# Altium schematic symbol library Relay.SchLib: 257 symbols (part 3 of 3)
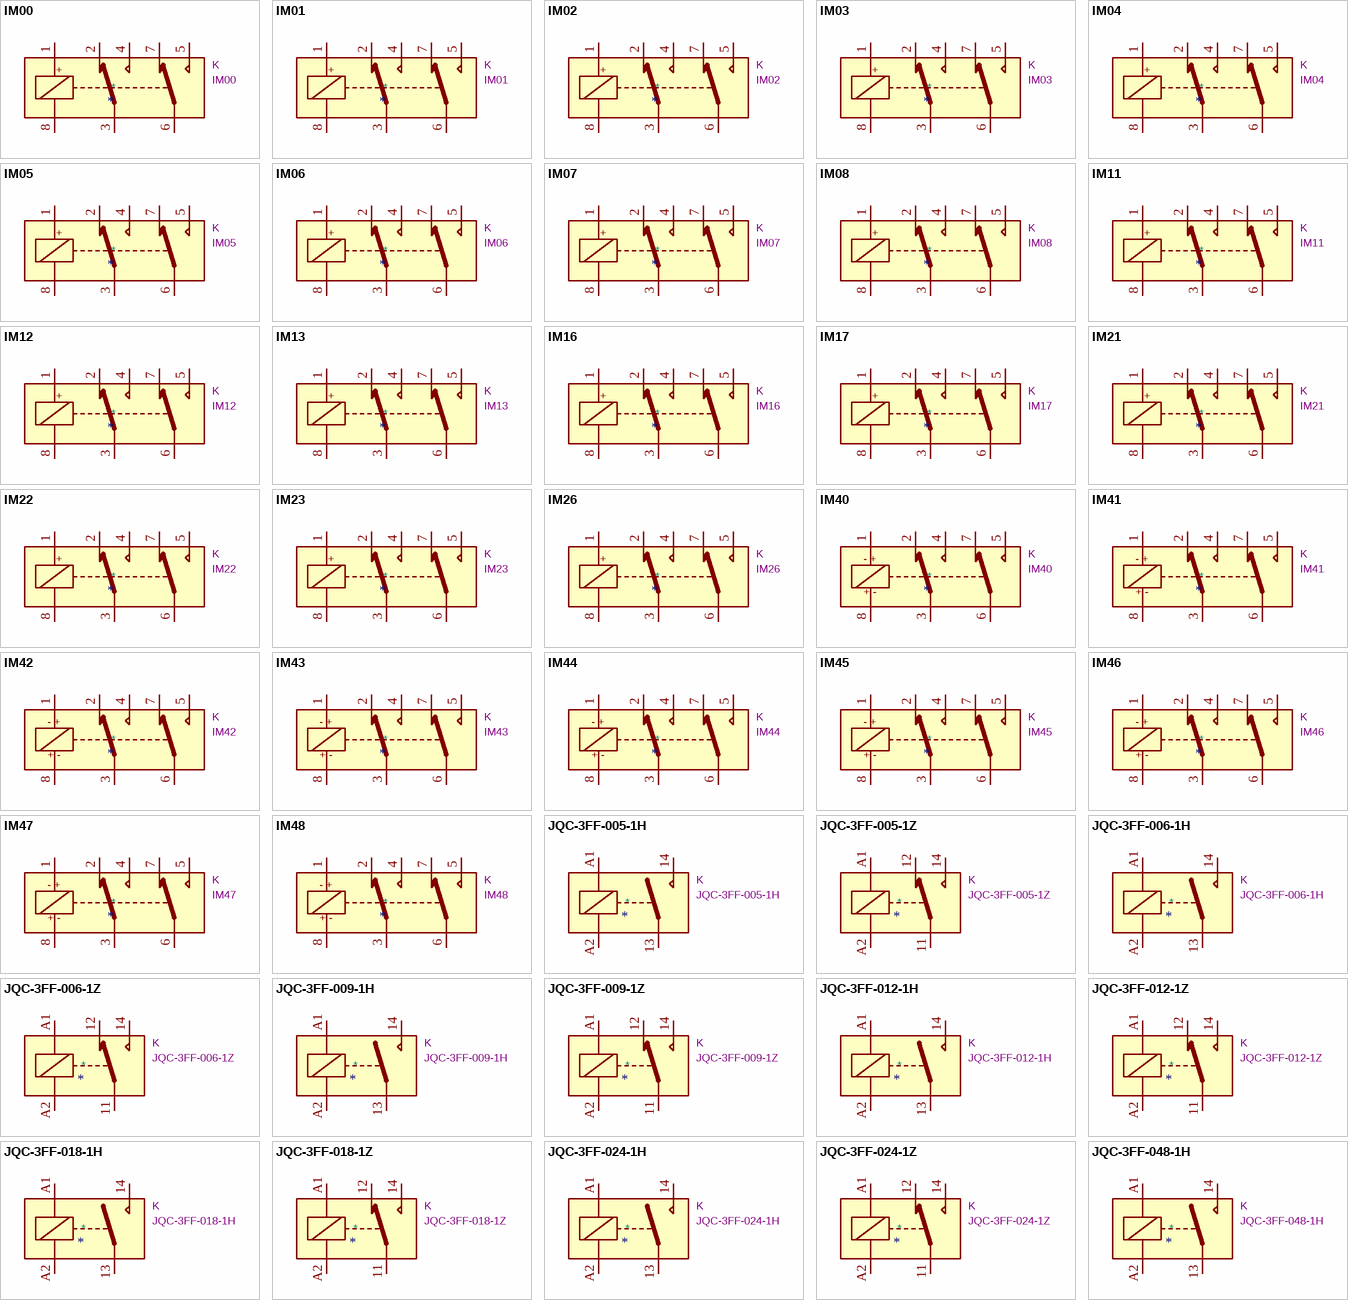
[diagram p8: symbols IM00 to JQC-3FF-048-1H]

## JQC-3FF-024-1Z
designator *  value JQC-3FF-024-1Z  Reference: K
Subminiature High Power SPDT Relay, 24V Coil nom. 0.36W, 10A switching current, max 10A@277VAC/28VDC; ki_keywords: Hongmei; ki_fp_filters: Relay*SPDT*Hongfa*JQC*3FF*0XX*1Z*; Footprint: Relay_THT:Relay_SPDT_Hongfa_JQC-3FF_0XX-1Z; Datasheet: https://www.digikey.com/htmldatasheets/production/2071105/0/0/1/JQC-3FF.pdf; Description_: Subminiature High Power SPDT Relay, 24V Coil nom. 0.36W, 10A switching current, max 10A@277VAC/28VDC
pins: 11, 12, 14, A1, A2

## JQC-3FF-048-1H
designator *  value JQC-3FF-048-1H  Reference: K
Subminiature High Power SPST NO Relay, 48V Coil nom. 0.51W, 15A switching current, max 10A@277VAC/28VDC; ki_keywords: Hongmei; ki_fp_filters: Relay*SPST*Hongfa*JQC*3FF*0XX*1H*; Footprint: Relay_THT:Relay_SPST_Hongfa_JQC-3FF_0XX-1H; Datasheet: https://www.digikey.com/htmldatasheets/production/2071105/0/0/1/JQC-3FF.pdf; Description_: Subminiature High Power SPST NO Relay, 48V Coil nom. 0.51W, 15A switching current, max 10A@277VAC/28VDC
pins: 13, 14, A1, A2

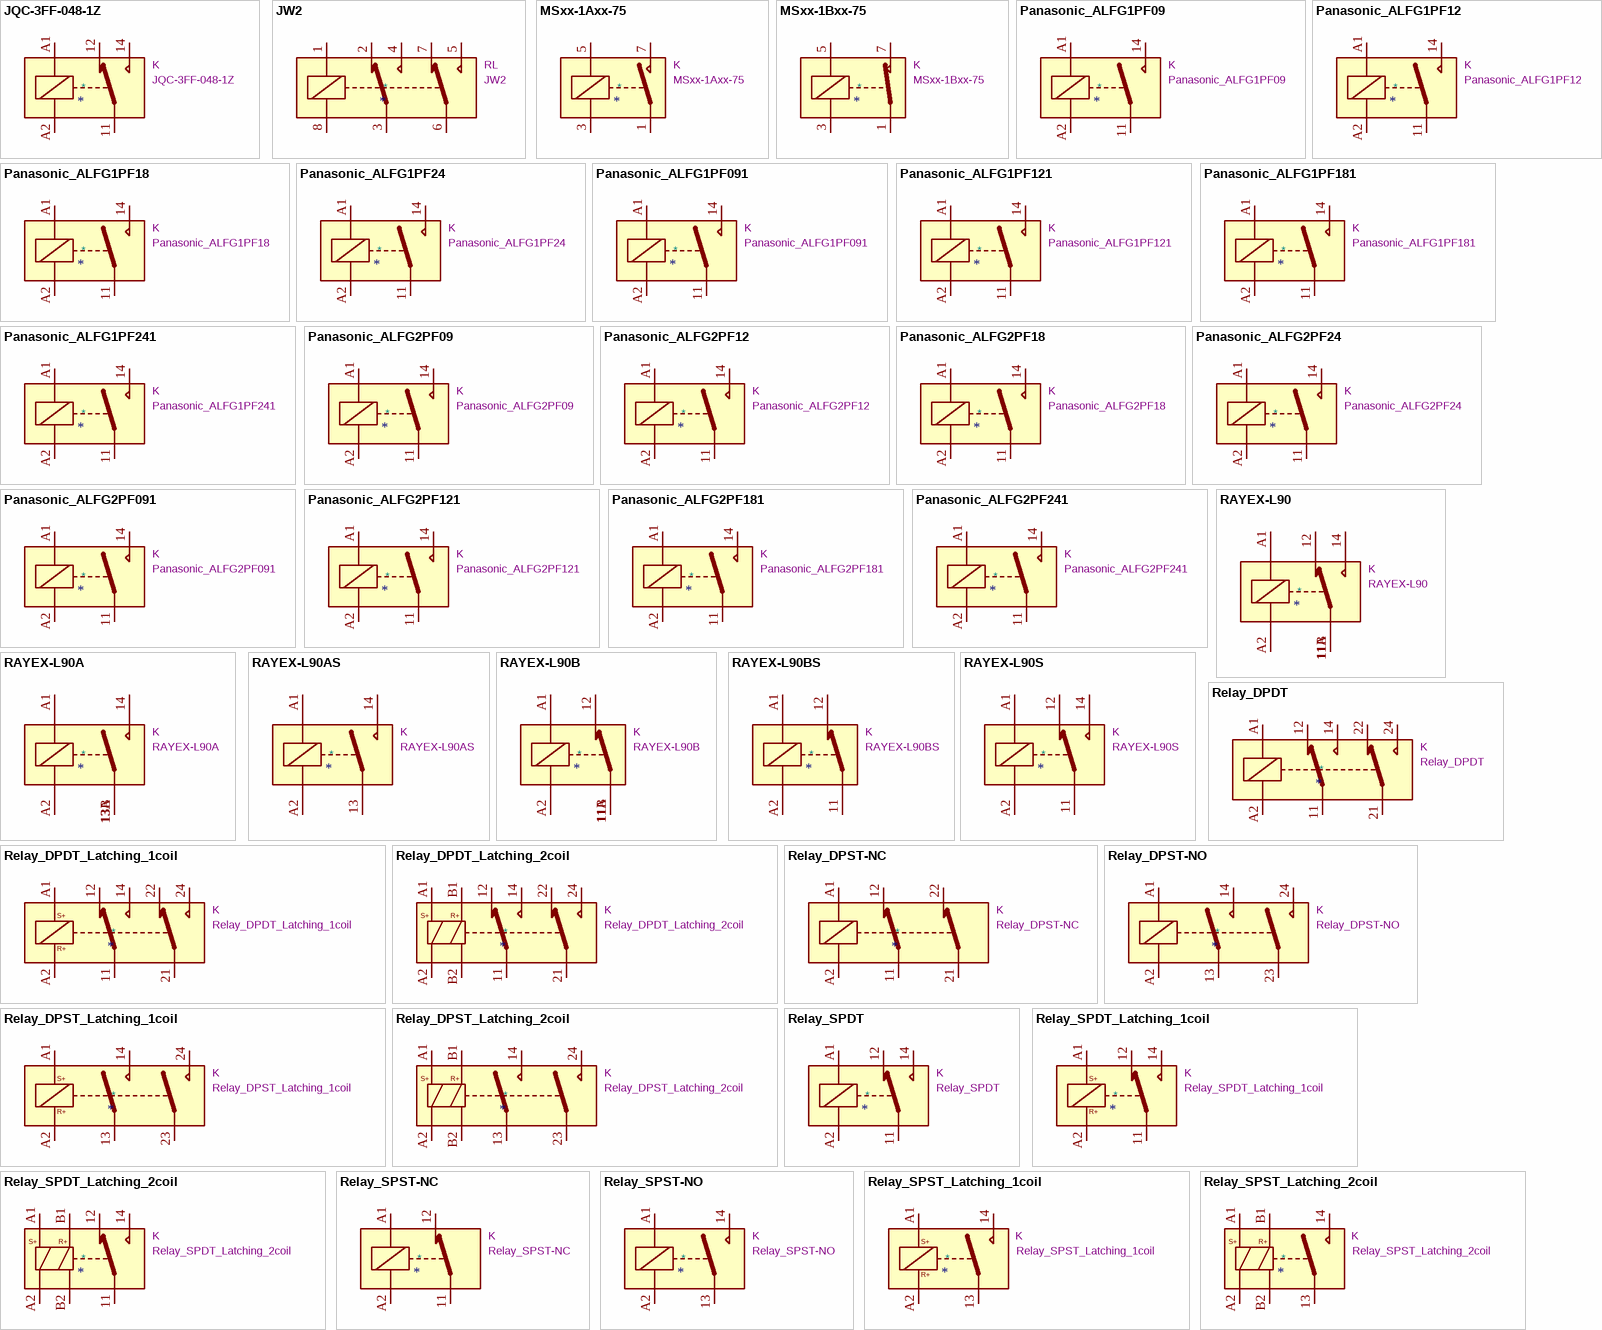
[diagram p5: symbols JQC-3FF-048-1Z to Relay_SPST_Latching_2coil]

## JQC-3FF-048-1Z
designator *  value JQC-3FF-048-1Z  Reference: K
Subminiature High Power SPDT Relay, 48V Coil nom. 0.51W, 10A switching current, max 10A@277VAC/28VDC; ki_keywords: Hongmei; ki_fp_filters: Relay*SPDT*Hongfa*JQC*3FF*0XX*1Z*; Footprint: Relay_THT:Relay_SPDT_Hongfa_JQC-3FF_0XX-1Z; Datasheet: https://www.digikey.com/htmldatasheets/production/2071105/0/0/1/JQC-3FF.pdf; Description_: Subminiature High Power SPDT Relay, 48V Coil nom. 0.51W, 10A switching current, max 10A@277VAC/28VDC
pins: 11, 12, 14, A1, A2

## JW2
designator *  value JW2  Reference: RL
General Purpose Relay DPDT (2 Form C) Through Hole, Panasonic JW series; ki_keywords: Panasonic Relay Dual Pole; ki_fp_filters: Relay*DPDT*Panasonic*JW2*; Footprint: Relay_THT:Relay_DPDT_Panasonic_JW2; Datasheet: http://www3.panasonic.biz/ac/e_download/control/relay/power/catalog/mech_eng_jw.pdf?via=ok; Description_: General Purpose Relay DPDT (2 Form C) Through Hole, Panasonic JW series
pins: 1, 2, 3, 4, 5, 6, 7, 8

## MSxx-1Axx-75
designator *  value MSxx-1Axx-75  Reference: K
Standex Meder MS reed relay, SPST, Closing Contact; ki_keywords: Single Pole Reed Relay SPST; ki_fp_filters: Relay*SPST*StandexMeder*MS*Form1AB*; Footprint: Relay_THT:Relay_SPST_StandexMeder_MS_Form1AB; Datasheet: https://standexelectronics.com/wp-content/uploads/datasheets/42/4205187975e.pdf; Description_: Standex Meder MS reed relay, SPST, Closing Contact
pins: 1, 3, 5, 7

## MSxx-1Bxx-75
designator *  value MSxx-1Bxx-75  Reference: K
Standex Meder MS reed relay, SPST, Opening Contact; ki_keywords: Single Pole Reed Relay SPST; ki_fp_filters: Relay*SPST*StandexMeder*MS*Form1AB*; Footprint: Relay_THT:Relay_SPST_StandexMeder_MS_Form1AB; Datasheet: https://standexelectronics.com/de/produkte/ms-reed-relais/; Description_: Standex Meder MS reed relay, SPST, Opening Contact
pins: 1, 3, 5, 7

## Panasonic_ALFG1PF09
designator *  value Panasonic_ALFG1PF09  Reference: K
9V DC, Standard, 22A, Contact Gap 1.5mm, ALFG_FormA; ki_keywords: single pole spst make contact; ki_fp_filters: Relay*SPST*Panasonic*ALFG*FormA*; Footprint: Relay_THT:Relay_SPST_Panasonic_ALFG_FormA_CircularHoles; Datasheet: https://www3.panasonic.biz/ac/e_download/control/relay/power/catalog/mech_eng_lfg.pdf; Description_: 9V DC, Standard, 22A, Contact Gap 1.5mm, ALFG_FormA
pins: 11, 14, A1, A2

## Panasonic_ALFG1PF12
designator *  value Panasonic_ALFG1PF12  Reference: K
12V DC, Standard, 22A, Contact Gap 1.5mm, ALFG_FormA; ki_keywords: single pole spst make contact; ki_fp_filters: Relay*SPST*Panasonic*ALFG*FormA*; Footprint: Relay_THT:Relay_SPST_Panasonic_ALFG_FormA_CircularHoles; Datasheet: https://www3.panasonic.biz/ac/e_download/control/relay/power/catalog/mech_eng_lfg.pdf; Description_: 12V DC, Standard, 22A, Contact Gap 1.5mm, ALFG_FormA
pins: 11, 14, A1, A2

## Panasonic_ALFG1PF18
designator *  value Panasonic_ALFG1PF18  Reference: K
18V DC, Standard, 22A, Contact Gap 1.5mm, ALFG_FormA; ki_keywords: single pole spst make contact; ki_fp_filters: Relay*SPST*Panasonic*ALFG*FormA*; Footprint: Relay_THT:Relay_SPST_Panasonic_ALFG_FormA_CircularHoles; Datasheet: https://www3.panasonic.biz/ac/e_download/control/relay/power/catalog/mech_eng_lfg.pdf; Description_: 18V DC, Standard, 22A, Contact Gap 1.5mm, ALFG_FormA
pins: 11, 14, A1, A2

## Panasonic_ALFG1PF24
designator *  value Panasonic_ALFG1PF24  Reference: K
24V DC, Standard, 22A, Contact Gap 1.5mm, ALFG_FormA; ki_keywords: single pole spst make contact; ki_fp_filters: Relay*SPST*Panasonic*ALFG*FormA*; Footprint: Relay_THT:Relay_SPST_Panasonic_ALFG_FormA_CircularHoles; Datasheet: https://www3.panasonic.biz/ac/e_download/control/relay/power/catalog/mech_eng_lfg.pdf; Description_: 24V DC, Standard, 22A, Contact Gap 1.5mm, ALFG_FormA
pins: 11, 14, A1, A2

## Panasonic_ALFG1PF091
designator *  value Panasonic_ALFG1PF091  Reference: K
9V DC, Standard, 22A, Contact Gap 1.8mm, ALFG_FormA; ki_keywords: single pole spst make contact; ki_fp_filters: Relay*SPST*Panasonic*ALFG*FormA*; Footprint: Relay_THT:Relay_SPST_Panasonic_ALFG_FormA_CircularHoles; Datasheet: https://www3.panasonic.biz/ac/e_download/control/relay/power/catalog/mech_eng_lfg.pdf; Description_: 9V DC, Standard, 22A, Contact Gap 1.8mm, ALFG_FormA
pins: 11, 14, A1, A2

## Panasonic_ALFG1PF121
designator *  value Panasonic_ALFG1PF121  Reference: K
12V DC, Standard, 22A, Contact Gap 1.8mm, ALFG_FormA; ki_keywords: single pole spst make contact; ki_fp_filters: Relay*SPST*Panasonic*ALFG*FormA*; Footprint: Relay_THT:Relay_SPST_Panasonic_ALFG_FormA_CircularHoles; Datasheet: https://www3.panasonic.biz/ac/e_download/control/relay/power/catalog/mech_eng_lfg.pdf; Description_: 12V DC, Standard, 22A, Contact Gap 1.8mm, ALFG_FormA
pins: 11, 14, A1, A2

## Panasonic_ALFG1PF181
designator *  value Panasonic_ALFG1PF181  Reference: K
18V DC, Standard, 22A, Contact Gap 1.8mm, ALFG_FormA; ki_keywords: single pole spst make contact; ki_fp_filters: Relay*SPST*Panasonic*ALFG*FormA*; Footprint: Relay_THT:Relay_SPST_Panasonic_ALFG_FormA_CircularHoles; Datasheet: https://www3.panasonic.biz/ac/e_download/control/relay/power/catalog/mech_eng_lfg.pdf; Description_: 18V DC, Standard, 22A, Contact Gap 1.8mm, ALFG_FormA
pins: 11, 14, A1, A2

## Panasonic_ALFG1PF241
designator *  value Panasonic_ALFG1PF241  Reference: K
24V DC, Standard, 22A, Contact Gap 1.8mm, ALFG_FormA; ki_keywords: single pole spst make contact; ki_fp_filters: Relay*SPST*Panasonic*ALFG*FormA*; Footprint: Relay_THT:Relay_SPST_Panasonic_ALFG_FormA_CircularHoles; Datasheet: https://www3.panasonic.biz/ac/e_download/control/relay/power/catalog/mech_eng_lfg.pdf; Description_: 24V DC, Standard, 22A, Contact Gap 1.8mm, ALFG_FormA
pins: 11, 14, A1, A2

## Panasonic_ALFG2PF09
designator *  value Panasonic_ALFG2PF09  Reference: K
9V DC, High Capacity, 31A, Contact Gap 1.5mm, ALFG_FormA; ki_keywords: single pole spst make contact; ki_fp_filters: Relay*SPST*Panasonic*ALFG*FormA*; Footprint: Relay_THT:Relay_SPST_Panasonic_ALFG_FormA_CircularHoles; Datasheet: https://www3.panasonic.biz/ac/e_download/control/relay/power/catalog/mech_eng_lfg.pdf; Description_: 9V DC, High Capacity, 31A, Contact Gap 1.5mm, ALFG_FormA
pins: 11, 14, A1, A2

## Panasonic_ALFG2PF12
designator *  value Panasonic_ALFG2PF12  Reference: K
12V DC, High Capacity, 31A, Contact Gap 1.5mm, ALFG_FormA; ki_keywords: single pole spst make contact; ki_fp_filters: Relay*SPST*Panasonic*ALFG*FormA*; Footprint: Relay_THT:Relay_SPST_Panasonic_ALFG_FormA_CircularHoles; Datasheet: https://www3.panasonic.biz/ac/e_download/control/relay/power/catalog/mech_eng_lfg.pdf; Description_: 12V DC, High Capacity, 31A, Contact Gap 1.5mm, ALFG_FormA
pins: 11, 14, A1, A2

## Panasonic_ALFG2PF18
designator *  value Panasonic_ALFG2PF18  Reference: K
18V DC, High Capacity, 31A, Contact Gap 1.5mm, ALFG_FormA; ki_keywords: single pole spst make contact; ki_fp_filters: Relay*SPST*Panasonic*ALFG*FormA*; Footprint: Relay_THT:Relay_SPST_Panasonic_ALFG_FormA_CircularHoles; Datasheet: https://www3.panasonic.biz/ac/e_download/control/relay/power/catalog/mech_eng_lfg.pdf; Description_: 18V DC, High Capacity, 31A, Contact Gap 1.5mm, ALFG_FormA
pins: 11, 14, A1, A2

## Panasonic_ALFG2PF24
designator *  value Panasonic_ALFG2PF24  Reference: K
24V DC, High Capacity, 31A, Contact Gap 1.5mm, ALFG_FormA; ki_keywords: single pole spst make contact; ki_fp_filters: Relay*SPST*Panasonic*ALFG*FormA*; Footprint: Relay_THT:Relay_SPST_Panasonic_ALFG_FormA_CircularHoles; Datasheet: https://www3.panasonic.biz/ac/e_download/control/relay/power/catalog/mech_eng_lfg.pdf; Description_: 24V DC, High Capacity, 31A, Contact Gap 1.5mm, ALFG_FormA
pins: 11, 14, A1, A2

## Panasonic_ALFG2PF091
designator *  value Panasonic_ALFG2PF091  Reference: K
9V DC, High Capacity, 33A, Contact Gap 1.8mm, ALFG_FormA; ki_keywords: single pole spst make contact; ki_fp_filters: Relay*SPST*Panasonic*ALFG*FormA*; Footprint: Relay_THT:Relay_SPST_Panasonic_ALFG_FormA_CircularHoles; Datasheet: https://www3.panasonic.biz/ac/e_download/control/relay/power/catalog/mech_eng_lfg.pdf; Description_: 9V DC, High Capacity, 33A, Contact Gap 1.8mm, ALFG_FormA
pins: 11, 14, A1, A2

## Panasonic_ALFG2PF121
designator *  value Panasonic_ALFG2PF121  Reference: K
12V DC, High Capacity, 33A, Contact Gap 1.8mm, ALFG_FormA; ki_keywords: single pole spst make contact; ki_fp_filters: Relay*SPST*Panasonic*ALFG*FormA*; Footprint: Relay_THT:Relay_SPST_Panasonic_ALFG_FormA_CircularHoles; Datasheet: https://www3.panasonic.biz/ac/e_download/control/relay/power/catalog/mech_eng_lfg.pdf; Description_: 12V DC, High Capacity, 33A, Contact Gap 1.8mm, ALFG_FormA
pins: 11, 14, A1, A2

## Panasonic_ALFG2PF181
designator *  value Panasonic_ALFG2PF181  Reference: K
18V DC, High Capacity, 33A, Contact Gap 1.8mm, ALFG_FormA; ki_keywords: single pole spst make contact; ki_fp_filters: Relay*SPST*Panasonic*ALFG*FormA*; Footprint: Relay_THT:Relay_SPST_Panasonic_ALFG_FormA_CircularHoles; Datasheet: https://www3.panasonic.biz/ac/e_download/control/relay/power/catalog/mech_eng_lfg.pdf; Description_: 18V DC, High Capacity, 33A, Contact Gap 1.8mm, ALFG_FormA
pins: 11, 14, A1, A2

## Panasonic_ALFG2PF241
designator *  value Panasonic_ALFG2PF241  Reference: K
24V DC, High Capacity, 33A, Contact Gap 1.8mm, ALFG_FormA; ki_keywords: single pole spst make contact; ki_fp_filters: Relay*SPST*Panasonic*ALFG*FormA*; Footprint: Relay_THT:Relay_SPST_Panasonic_ALFG_FormA_CircularHoles; Datasheet: https://www3.panasonic.biz/ac/e_download/control/relay/power/catalog/mech_eng_lfg.pdf; Description_: 24V DC, High Capacity, 33A, Contact Gap 1.8mm, ALFG_FormA
pins: 11, 14, A1, A2

## RAYEX-L90
designator *  value RAYEX-L90  Reference: K
Power relay, SPDT, 30A; ki_keywords: 30A Single Pole Relay; ki_fp_filters: Relay*SPDT*RAYEX*L90*; Footprint: Relay_THT:Relay_SPDT_RAYEX-L90; Datasheet: https://a3.sofastcdn.com/attachment/7jioKBjnRiiSrjrjknRiwS77gwbf3zmp/L90-SERIES.pdf; Description_: Power relay, SPDT, 30A
pins: 11A, 11B, 12, 14, A1, A2

## RAYEX-L90A
designator *  value RAYEX-L90A  Reference: K
Power relay, NO, SPST, 30A; ki_keywords: 30A Single Pole Relay; ki_fp_filters: Relay*SPST*RAYEX*L90A*; Footprint: Relay_THT:Relay_SPST_RAYEX-L90A; Datasheet: https://a3.sofastcdn.com/attachment/7jioKBjnRiiSrjrjknRiwS77gwbf3zmp/L90-SERIES.pdf; Description_: Power relay, NO, SPST, 30A
pins: 13A, 13B, 14, A1, A2

## RAYEX-L90AS
designator *  value RAYEX-L90AS  Reference: K
Power relay, Without Common Terminal between coil terminals, NO, SPST, 30A; ki_keywords: 30A Single Pole Relay; ki_fp_filters: Relay*SPST*RAYEX*L90A*; Footprint: Relay_THT:Relay_SPST_RAYEX-L90AS; Datasheet: https://a3.sofastcdn.com/attachment/7jioKBjnRiiSrjrjknRiwS77gwbf3zmp/L90-SERIES.pdf; Description_: Power relay, Without Common Terminal between coil terminals, NO, SPST, 30A
pins: 13, 14, A1, A2

## RAYEX-L90B
designator *  value RAYEX-L90B  Reference: K
Power relay, NC, SPST, 30A; ki_keywords: 30A Single Pole Relay; ki_fp_filters: Relay*SPST*RAYEX*L90B*; Footprint: Relay_THT:Relay_SPST_RAYEX-L90B; Datasheet: https://a3.sofastcdn.com/attachment/7jioKBjnRiiSrjrjknRiwS77gwbf3zmp/L90-SERIES.pdf; Description_: Power relay, NC, SPST, 30A
pins: 11A, 11B, 12, A1, A2

## RAYEX-L90BS
designator *  value RAYEX-L90BS  Reference: K
Power relay, Without Common Terminal between coil terminals, NC, SPST, 30A; ki_keywords: 30A Single Pole Relay; ki_fp_filters: Relay*SPST*RAYEX*L90B*; Footprint: Relay_THT:Relay_SPST_RAYEX-L90BS; Datasheet: https://a3.sofastcdn.com/attachment/7jioKBjnRiiSrjrjknRiwS77gwbf3zmp/L90-SERIES.pdf; Description_: Power relay, Without Common Terminal between coil terminals, NC, SPST, 30A
pins: 11, 12, A1, A2

## RAYEX-L90S
designator *  value RAYEX-L90S  Reference: K
Power relay, Without Common Terminal between coil terminals, SPDT, 30A; ki_keywords: 30A Single Pole Relay; ki_fp_filters: Relay*SPDT*RAYEX*L90S*; Footprint: Relay_THT:Relay_SPDT_RAYEX-L90S; Datasheet: https://a3.sofastcdn.com/attachment/7jioKBjnRiiSrjrjknRiwS77gwbf3zmp/L90-SERIES.pdf; Description_: Power relay, Without Common Terminal between coil terminals, SPDT, 30A
pins: 11, 12, 14, A1, A2

## Relay_DPDT
designator *  value Relay_DPDT  Reference: K
Relay DPDT, monostable, EN50005; ki_keywords: 2P2T 2-Form-C double dual throw pole; ki_fp_filters: Relay?DPDT*; Datasheet: ~; Description_: Relay DPDT, monostable, EN50005
pins: 11, 12, 14, 21, 22, 24, A1, A2

## Relay_DPDT_Latching_1coil
designator *  value Relay_DPDT_Latching_1coil  Reference: K
Relay DPDT, bistable, single-coil, EN50005; ki_keywords: 2P2T 2-Form-C double dual pole throw latching; ki_fp_filters: Relay?DPDT*; Datasheet: ~; Description_: Relay DPDT, bistable, single-coil, EN50005
pins: 11, 12, 14, 21, 22, 24, A1, A2
text: S+; R+

## Relay_DPDT_Latching_2coil
designator *  value Relay_DPDT_Latching_2coil  Reference: K
Relay DPDT, bistable, double-coil, EN50005; ki_keywords: 2P2T 2-Form-C double dual pole throw latching; ki_fp_filters: Relay?DPDT*; Datasheet: ~; Description_: Relay DPDT, bistable, double-coil, EN50005
pins: 11, 12, 14, 21, 22, 24, A1, A2, B1, B2
text: S+; R+

## Relay_DPST-NC
designator *  value Relay_DPST-NC  Reference: K
Relay DPST, monostable, normally closed, EN50005; ki_keywords: 2P2T 2-Form-B double dual pole throw NC; ki_fp_filters: Relay?DPST*; Datasheet: ~; Description_: Relay DPST, monostable, normally closed, EN50005
pins: 11, 12, 21, 22, A1, A2

## Relay_DPST-NO
designator *  value Relay_DPST-NO  Reference: K
Relay DPST, monostable, normally open, EN50005; ki_keywords: 2P2T 2-Form-A double dual pole throw NO; ki_fp_filters: Relay?DPST*; Datasheet: ~; Description_: Relay DPST, monostable, normally open, EN50005
pins: 13, 14, 23, 24, A1, A2

## Relay_DPST_Latching_1coil
designator *  value Relay_DPST_Latching_1coil  Reference: K
Relay DPST, monostable, normally open, EN50005; ki_keywords: 2P2Tdouble dual pole throw latching; ki_fp_filters: Relay?DPST*; Datasheet: ~; Description_: Relay DPST, monostable, normally open, EN50005
pins: 13, 14, 23, 24, A1, A2
text: S+; R+

## Relay_DPST_Latching_2coil
designator *  value Relay_DPST_Latching_2coil  Reference: K
Relay DPST, bistable, double-coil, EN50005; ki_keywords: 2P2T double dual pole throw latching; ki_fp_filters: Relay?DPDT*; Datasheet: ~; Description_: Relay DPST, bistable, double-coil, EN50005
pins: 13, 14, 23, 24, A1, A2, B1, B2
text: S+; R+

## Relay_SPDT
designator *  value Relay_SPDT  Reference: K
Relay SPDT, monostable, EN50005; ki_keywords: 1P2T 1-Form-C single pole throw; ki_fp_filters: Relay?SPDT*; Datasheet: ~; Description_: Relay SPDT, monostable, EN50005
pins: 11, 12, 14, A1, A2

## Relay_SPDT_Latching_1coil
designator *  value Relay_SPDT_Latching_1coil  Reference: K
Relay SPDT, bistable, double-coil, EN50005; ki_keywords: 1P2T 1-Form-C single pole throw latching; ki_fp_filters: Relay?SPDT*; Datasheet: ~; Description_: Relay SPDT, bistable, double-coil, EN50005
pins: 11, 12, 14, A1, A2
text: S+; R+

## Relay_SPDT_Latching_2coil
designator *  value Relay_SPDT_Latching_2coil  Reference: K
Relay SPDT, bistable, double-coil, EN50005; ki_keywords: 1P2T 1-Form-C single pole throw latching; ki_fp_filters: Relay?SPDT*; Datasheet: ~; Description_: Relay SPDT, bistable, double-coil, EN50005
pins: 11, 12, 14, A1, A2, B1, B2
text: S+; R+

## Relay_SPST-NC
designator *  value Relay_SPST-NC  Reference: K
Relay SPST, normally closed, EN50005; ki_keywords: 1P1T 1-Form-B single pole throw NC; ki_fp_filters: Relay?SPST*; Datasheet: ~; Description_: Relay SPST, normally closed, EN50005
pins: 11, 12, A1, A2

## Relay_SPST-NO
designator *  value Relay_SPST-NO  Reference: K
Relay SPST, normally open, EN50005; ki_keywords: 1P1T 1-Form-A single pole throw NO; ki_fp_filters: Relay?SPST*; Datasheet: ~; Description_: Relay SPST, normally open, EN50005
pins: 13, 14, A1, A2

## Relay_SPST_Latching_1coil
designator *  value Relay_SPST_Latching_1coil  Reference: K
Relay SPST, bistable, single-coil, EN50005; ki_keywords: 1P1T single pole throw latching; ki_fp_filters: Relay?SPST*; Datasheet: ~; Description_: Relay SPST, bistable, single-coil, EN50005
pins: 13, 14, A1, A2
text: S+; R+

## Relay_SPST_Latching_2coil
designator *  value Relay_SPST_Latching_2coil  Reference: K
Relay SPST, bistable, double-coil, EN50005; ki_keywords: 1P1T single pole throw latching; ki_fp_filters: Relay?SPST*; Datasheet: ~; Description_: Relay SPST, bistable, double-coil, EN50005
pins: 13, 14, A1, A2, B1, B2
text: S+; R+

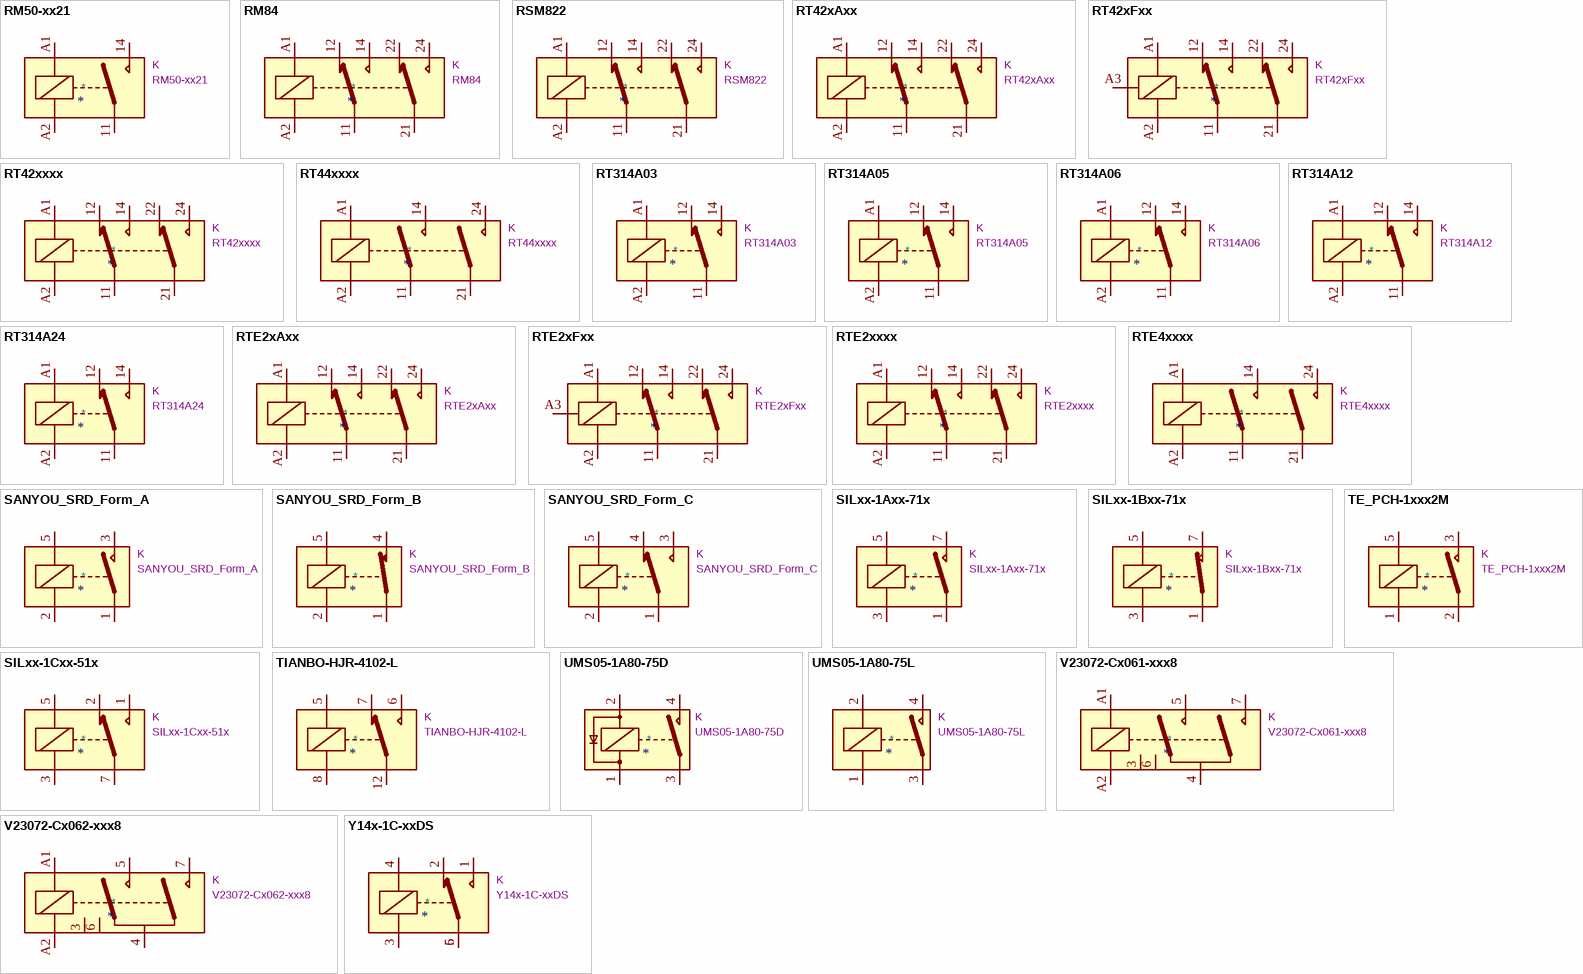
[diagram p6: symbols RM50-xx21 to Y14x-1C-xxDS]

## RM50-xx21
designator *  value RM50-xx21  Reference: K
RELPOL, Single Pole Relay SPST-NO, 6A; ki_fp_filters: Relay*SPST*Finder*32.21*x300*; Footprint: Relay_THT:Relay_SPST_Finder_32.21-x300; Datasheet: http://www.relpol.pl/en/content/download/13683/165953/file/e_RM50.pdf; Description_: RELPOL, Single Pole Relay SPST-NO, 6A; ki_keywords: Single Pole Relay SPST-NO
pins: 11, 14, A1, A2

## RM84
designator *  value RM84  Reference: K
RELPOL Dual Pole Relay, 5mm Pitch, 8A; ki_fp_filters: Relay*DPDT*Finder*40.52*; Footprint: Relay_THT:Relay_DPDT_Finder_40.52; Datasheet: http://www.relpol.pl/en/content/download/13766/168095/file/e_RM84.pdf; Description_: RELPOL Dual Pole Relay, 5mm Pitch, 8A; ki_keywords: Dual Pole Relay
pins: 11, 12, 14, 21, 22, 24, A1, A2

## RSM822
designator *  value RSM822  Reference: K
RELPOL Dual Pole Relay, 5mm Pitch, 2A; ki_fp_filters: Relay*DPDT*Finder*40.52*; Footprint: Relay_THT:Relay_DPDT_Finder_40.52; Datasheet: http://www.relpol.pl/en/content/download/14975/202519/file/e_RSM822.pdf; Description_: RELPOL Dual Pole Relay, 5mm Pitch, 2A; ki_keywords: Dual Pole Relay
pins: 11, 12, 14, 21, 22, 24, A1, A2

## RT42xAxx
designator *  value RT42xAxx  Reference: K
Schrack RT2 relay, bistable dual pole dual throw, single DC coil; ki_keywords: TE DPDT CO bistable DC; ki_fp_filters: Relay*DPDT*RT2*FormC*; Footprint: Relay_THT:Relay_DPDT_Schrack-RT2-FormC_RM5mm; Datasheet: http://www.te.com/commerce/DocumentDelivery/DDEController?Action=showdoc&DocId=Data+Sheet%7FRT2_bistable%7F1116%7Fpdf%7FEnglish%7FENG_DS_RT2_bistable_1116.pdf%7F1-1415537-8; Description_: Schrack RT2 relay, bistable dual pole dual throw, single DC coil
pins: 11, 12, 14, 21, 22, 24, A1, A2

## RT42xFxx
designator *  value RT42xFxx  Reference: K
Schrack RT2 relay, bistable dual pole dual throw, dual DC coils; ki_keywords: TE DPDT CO bistable DC; ki_fp_filters: Relay*DPDT*RT2*FormC*; Footprint: Relay_THT:Relay_DPDT_Schrack-RT2-FormC-Dual-Coil_RM5mm; Datasheet: http://www.te.com/commerce/DocumentDelivery/DDEController?Action=showdoc&DocId=Data+Sheet%7FRT2_bistable%7F1116%7Fpdf%7FEnglish%7FENG_DS_RT2_bistable_1116.pdf%7F1-1415537-8; Description_: Schrack RT2 relay, bistable dual pole dual throw, dual DC coils
pins: 11, 12, 14, 21, 22, 24, A1, A2, A3

## RT42xxxx
designator *  value RT42xxxx  Reference: K
Schrack RT2 relay, monostable dual pole dual throw, DC or AC coil; ki_keywords: TE DPDT CO monostable; ki_fp_filters: Relay*DPDT*RT2*FormC*; Footprint: Relay_THT:Relay_DPDT_Schrack-RT2-FormC_RM5mm; Datasheet: http://www.te.com/commerce/DocumentDelivery/DDEController?Action=showdoc&DocId=Data+Sheet%7FRT2%7F1014%7Fpdf%7FEnglish%7FENG_DS_RT2_1014.pdf%7F6-1393243-3; Description_: Schrack RT2 relay, monostable dual pole dual throw, DC or AC coil
pins: 11, 12, 14, 21, 22, 24, A1, A2

## RT44xxxx
designator *  value RT44xxxx  Reference: K
Schrack RT2 relay, monostable dual pole normally open, DC or AC coil; ki_keywords: TE DPST NO monostable; ki_fp_filters: Relay*DPST*RT2*FormA*; Footprint: Relay_THT:Relay_DPST_Schrack-RT2-FormA_RM5mm; Datasheet: http://www.te.com/commerce/DocumentDelivery/DDEController?Action=showdoc&DocId=Data+Sheet%7FRT2%7F1014%7Fpdf%7FEnglish%7FENG_DS_RT2_1014.pdf%7F6-1393243-3; Description_: Schrack RT2 relay, monostable dual pole normally open, DC or AC coil
pins: 11, 14, 21, 24, A1, A2

## RT314A03
designator *  value RT314A03  Reference: K
Schrack RT1 relay, bistable single pole dual throw, single DC coil, 3V; ki_keywords: TE SPDT 1P2T CO bistable DC; ki_fp_filters: Relay*SPDT*Schrack*RT1*16A*FormC*RM5mm*; Footprint: Relay_THT:Relay_SPDT_Schrack-RT1-16A-FormC_RM5mm; Datasheet: https://www.te.com/commerce/DocumentDelivery/DDEController?Action=srchrtrv&DocNm=RT1_bistable&DocType=DS&DocLang=English; Description_: Schrack RT1 relay, bistable single pole dual throw, single DC coil, 3V
pins: 11, 12, 14, A1, A2

## RT314A05
designator *  value RT314A05  Reference: K
Schrack RT1 relay, bistable single pole dual throw, single DC coil, 5V; ki_keywords: TE SPDT 1P2T CO bistable DC; ki_fp_filters: Relay*SPDT*Schrack*RT1*16A*FormC*RM5mm*; Footprint: Relay_THT:Relay_SPDT_Schrack-RT1-16A-FormC_RM5mm; Datasheet: https://www.te.com/commerce/DocumentDelivery/DDEController?Action=srchrtrv&DocNm=RT1_bistable&DocType=DS&DocLang=English; Description_: Schrack RT1 relay, bistable single pole dual throw, single DC coil, 5V
pins: 11, 12, 14, A1, A2

## RT314A06
designator *  value RT314A06  Reference: K
Schrack RT1 relay, bistablesingle pole dual throw, single DC coil, 6V; ki_keywords: TE SPDT 1P2T CO bistable DC; ki_fp_filters: Relay*SPDT*Schrack*RT1*16A*FormC*RM5mm*; Footprint: Relay_THT:Relay_SPDT_Schrack-RT1-16A-FormC_RM5mm; Datasheet: https://www.te.com/commerce/DocumentDelivery/DDEController?Action=srchrtrv&DocNm=RT1_bistable&DocType=DS&DocLang=English; Description_: Schrack RT1 relay, bistablesingle pole dual throw, single DC coil, 6V
pins: 11, 12, 14, A1, A2

## RT314A12
designator *  value RT314A12  Reference: K
Schrack RT1 relay, bistable single pole dual throw, single DC coil, 12V; ki_keywords: TE SPDT 1P2T CO bistable DC; ki_fp_filters: Relay*SPDT*Schrack*RT1*16A*FormC*RM5mm*; Footprint: Relay_THT:Relay_SPDT_Schrack-RT1-16A-FormC_RM5mm; Datasheet: https://www.te.com/commerce/DocumentDelivery/DDEController?Action=srchrtrv&DocNm=RT1_bistable&DocType=DS&DocLang=English; Description_: Schrack RT1 relay, bistable single pole dual throw, single DC coil, 12V
pins: 11, 12, 14, A1, A2

## RT314A24
designator *  value RT314A24  Reference: K
Schrack RT1 relay, bistable single pole dual throw, single DC coil, 24V, IEC 60335-1; ki_keywords: TE SPDT 1P2T CO bistable DC; ki_fp_filters: Relay*SPDT*Schrack*RT1*16A*FormC*RM5mm*; Footprint: Relay_THT:Relay_SPDT_Schrack-RT1-16A-FormC_RM5mm; Datasheet: https://www.te.com/commerce/DocumentDelivery/DDEController?Action=srchrtrv&DocNm=RT1_bistable&DocType=DS&DocLang=English; Description_: Schrack RT1 relay, bistable single pole dual throw, single DC coil, 24V, IEC 60335-1
pins: 11, 12, 14, A1, A2

## RTE2xAxx
designator *  value RTE2xAxx  Reference: K
Schrack RT2 relay, bistable dual pole dual throw, single DC coil; ki_keywords: TE DPDT CO bistable DC; ki_fp_filters: Relay*DPDT*RT2*FormC*; Footprint: Relay_THT:Relay_DPDT_Schrack-RT2-FormC_RM5mm; Datasheet: http://www.te.com/commerce/DocumentDelivery/DDEController?Action=showdoc&DocId=Data+Sheet%7FRT2_bistable%7F1116%7Fpdf%7FEnglish%7FENG_DS_RT2_bistable_1116.pdf%7F1-1415537-8; Description_: Schrack RT2 relay, bistable dual pole dual throw, single DC coil
pins: 11, 12, 14, 21, 22, 24, A1, A2

## RTE2xFxx
designator *  value RTE2xFxx  Reference: K
Schrack RT2 relay, bistable dual pole dual throw, dual DC coils; ki_keywords: TE DPDT CO bistable DC; ki_fp_filters: Relay*DPDT*RT2*FormC*; Footprint: Relay_THT:Relay_DPDT_Schrack-RT2-FormC-Dual-Coil_RM5mm; Datasheet: http://www.te.com/commerce/DocumentDelivery/DDEController?Action=showdoc&DocId=Data+Sheet%7FRT2_bistable%7F1116%7Fpdf%7FEnglish%7FENG_DS_RT2_bistable_1116.pdf%7F1-1415537-8; Description_: Schrack RT2 relay, bistable dual pole dual throw, dual DC coils
pins: 11, 12, 14, 21, 22, 24, A1, A2, A3

## RTE2xxxx
designator *  value RTE2xxxx  Reference: K
Schrack RT2 relay, monostable dual pole dual throw, DC or AC coil; ki_keywords: TE DPDT CO monostable; ki_fp_filters: Relay*DPDT*RT2*FormC*; Footprint: Relay_THT:Relay_DPDT_Schrack-RT2-FormC_RM5mm; Datasheet: http://www.te.com/commerce/DocumentDelivery/DDEController?Action=showdoc&DocId=Data+Sheet%7FRT2%7F1014%7Fpdf%7FEnglish%7FENG_DS_RT2_1014.pdf%7F6-1393243-3; Description_: Schrack RT2 relay, monostable dual pole dual throw, DC or AC coil
pins: 11, 12, 14, 21, 22, 24, A1, A2

## RTE4xxxx
designator *  value RTE4xxxx  Reference: K
Schrack RT2 relay, monostable dual pole normally open, DC or AC coil; ki_keywords: TE DPST NO monostable; ki_fp_filters: Relay*DPST*RT2*FormA*; Footprint: Relay_THT:Relay_DPST_Schrack-RT2-FormA_RM5mm; Datasheet: http://www.te.com/commerce/DocumentDelivery/DDEController?Action=showdoc&DocId=Data+Sheet%7FRT2%7F1014%7Fpdf%7FEnglish%7FENG_DS_RT2_1014.pdf%7F6-1393243-3; Description_: Schrack RT2 relay, monostable dual pole normally open, DC or AC coil
pins: 11, 14, 21, 24, A1, A2

## SANYOU_SRD_Form_A
designator *  value SANYOU_SRD_Form_A  Reference: K
Sanyo SRD relay, Single Pole Miniature Power Relay, Closing Contact; ki_keywords: Single Pole Relay SPST; ki_fp_filters: Relay*SPST*SANYOU*SRD*Series*Form*A*; Footprint: Relay_THT:Relay_SPST_SANYOU_SRD_Series_Form_A; Datasheet: http://www.sanyourelay.ca/public/products/pdf/SRD.pdf; Description_: Sanyo SRD relay, Single Pole Miniature Power Relay, Closing Contact
pins: 1, 2, 3, 5

## SANYOU_SRD_Form_B
designator *  value SANYOU_SRD_Form_B  Reference: K
Sanyo SRD relay, Single Pole Miniature Power Relay, Opening Contact; ki_keywords: Single Pole Relay SPST; ki_fp_filters: Relay*SPST*SANYOU*SRD*Series*Form*B*; Footprint: Relay_THT:Relay_SPST_SANYOU_SRD_Series_Form_B; Datasheet: http://www.sanyourelay.ca/public/products/pdf/SRD.pdf; Description_: Sanyo SRD relay, Single Pole Miniature Power Relay, Opening Contact
pins: 1, 2, 4, 5

## SANYOU_SRD_Form_C
designator *  value SANYOU_SRD_Form_C  Reference: K
Sanyo SRD relay, Single Pole Miniature Power Relay,; ki_keywords: Single Pole Relay SPDT; ki_fp_filters: Relay*SPDT*SANYOU*SRD*Series*Form*C*; Footprint: Relay_THT:Relay_SPDT_SANYOU_SRD_Series_Form_C; Datasheet: http://www.sanyourelay.ca/public/products/pdf/SRD.pdf; Description_: Sanyo SRD relay, Single Pole Miniature Power Relay,
pins: 1, 2, 3, 4, 5

## SILxx-1Axx-71x
designator *  value SILxx-1Axx-71x  Reference: K
Standex Meder SIL reed relay, SPST, Closing Contact; ki_keywords: Single Pole Reed Relay SPST; ki_fp_filters: Relay*SPST*StandexMeder*SIL*Form1A*; Footprint: Relay_THT:Relay_SPST_StandexMeder_SIL_Form1A; Datasheet: https://standexelectronics.com/wp-content/uploads/datasheet_reed_relay_SIL.pdf; Description_: Standex Meder SIL reed relay, SPST, Closing Contact
pins: 1, 3, 5, 7

## SILxx-1Bxx-71x
designator *  value SILxx-1Bxx-71x  Reference: K
Standex Meder SIL reed relay, SPST, Opening Contact; ki_keywords: Single Pole Reed Relay SPST; ki_fp_filters: Relay*SPST*StandexMeder*SIL*Form1B*; Footprint: Relay_THT:Relay_SPST_StandexMeder_SIL_Form1B; Datasheet: https://standexelectronics.com/wp-content/uploads/datasheet_reed_relay_SIL.pdf; Description_: Standex Meder SIL reed relay, SPST, Opening Contact
pins: 1, 3, 5, 7

## SILxx-1Cxx-51x
designator *  value SILxx-1Cxx-51x  Reference: K
Standex Meder SIL reed relay, SPDT; ki_keywords: Single Pole Reed Relay SPDT; ki_fp_filters: Relay*SPDT*StandexMeder*SIL*Form1C*; Footprint: Relay_THT:Relay_SPDT_StandexMeder_SIL_Form1C; Datasheet: https://standexelectronics.com/wp-content/uploads/datasheet_reed_relay_SIL.pdf; Description_: Standex Meder SIL reed relay, SPDT
pins: 1, 2, 3, 5, 7

## TE_PCH-1xxx2M
designator *  value TE_PCH-1xxx2M  Reference: K
TE PCH relay, Miniature Single Pole, SPST-NO; ki_keywords: Miniature Single Pole Relay; ki_fp_filters: Relay*SPST*TE*PCH*1***2M*; Footprint: Relay_THT:Relay_SPST_TE_PCH-1xxx2M; Datasheet: http://www.te.com/commerce/DocumentDelivery/DDEController?Action=showdoc&DocId=Data+Sheet%7FPCH_series_relay_data_sheet_E%7F1215%7Fpdf%7FEnglish%7FENG_DS_PCH_series_relay_data_sheet_E_1215.pdf%7F9-1440003-0; Description_: TE PCH relay, Miniature Single Pole, SPST-NO
pins: 1, 2, 3, 5

## TIANBO-HJR-4102-L
designator *  value TIANBO-HJR-4102-L  Reference: K
TIANBO HJR-4102-L, Single Pole Relay, 5mm Pitch, 3A; ki_fp_filters: Relay*HJR?4102*; Footprint: Relay_THT:Relay_SPDT_HJR-4102; Datasheet: https://cdn-reichelt.de/documents/datenblatt/C300/DS_HJR4102E.pdf; Description_: TIANBO HJR-4102-L, Single Pole Relay, 5mm Pitch, 3A; ki_keywords: Single Pole Relay
pins: 5, 6, 7, 8, 12

## UMS05-1A80-75D
designator *  value UMS05-1A80-75D  Reference: K
Standex Meder UMS reed relay, SPST, Closing Contact, with diode; ki_keywords: Single Pole Reed Relay SPST; ki_fp_filters: Relay*StandexMeder*UMS*; Footprint: Relay_THT:Relay_StandexMeder_UMS; Datasheet: https://standexelectronics.com/wp-content/uploads/datasheets/43/4305180175d.pdf; Description_: Standex Meder UMS reed relay, SPST, Closing Contact, with diode
pins: 1, 2, 3, 4

## UMS05-1A80-75L
designator *  value UMS05-1A80-75L  Reference: K
Standex Meder UMS reed relay, SPST, Closing Contact; ki_keywords: Single Pole Reed Relay SPST; ki_fp_filters: Relay*StandexMeder*UMS*; Footprint: Relay_THT:Relay_StandexMeder_UMS; Datasheet: https://standexelectronics.com/wp-content/uploads/datasheets/43/4305180075d.pdf; Description_: Standex Meder UMS reed relay, SPST, Closing Contact
pins: 1, 2, 3, 4

## V23072-Cx061-xxx8
designator *  value V23072-Cx061-xxx8  Reference: K
Mini Relay K, 12VDC coil / rated voltage, 1 Form U (twin make contact, i.e. 2x NO with common connection), Sealed Enclosure; ki_keywords: SPST Miniature Single Pole Obsolete; ki_fp_filters: *Relay*Tyco*; Footprint: Relay_THT:Relay_Tyco_V23072_Sealed; Datasheet: https://www.electrokit.com/upload/product/41019/41019252/V23072.pdf; Description_: Mini Relay K, 12VDC coil / rated voltage, 1 Form U (twin make contact, i.e. 2x NO with common connection), Sealed Enclosure
pins: 3, 4, 5, 6, 7, A1, A2

## V23072-Cx062-xxx8
designator *  value V23072-Cx062-xxx8  Reference: K
Mini Relay K, 24VDC coil / rated voltage, 1 Form U (twin make contact, i.e. 2x NO with common connection), Sealed Enclosure; ki_keywords: SPST Miniature Single Pole Obsolete; ki_fp_filters: *Relay*Tyco*; Footprint: Relay_THT:Relay_Tyco_V23072_Sealed; Datasheet: https://www.electrokit.com/upload/product/41019/41019252/V23072.pdf; Description_: Mini Relay K, 24VDC coil / rated voltage, 1 Form U (twin make contact, i.e. 2x NO with common connection), Sealed Enclosure
pins: 3, 4, 5, 6, 7, A1, A2

## Y14x-1C-xxDS
designator *  value Y14x-1C-xxDS  Reference: K
Hsin Da Y14-series relay, Single Pole Dual Throw; ki_keywords: Relay SPDT; ki_fp_filters: Relay*Y14*; Footprint: Relay_THT:Relay_SPDT_HsinDa_Y14; Datasheet: http://www.hsinda.com.tw/upload/file/Y14-20200430135145.pdf; Description_: Hsin Da Y14-series relay, Single Pole Dual Throw
pins: 1, 2, 3, 4, 5, 6